# EAGLE library part XCV50_PQ240 (library xilinx-xcv)
xcv50_pq240 edit this description Auto generated by make-symbol-device-package-bsdl.ulp Rev. 26 Source: xcv50_pq240.bsd
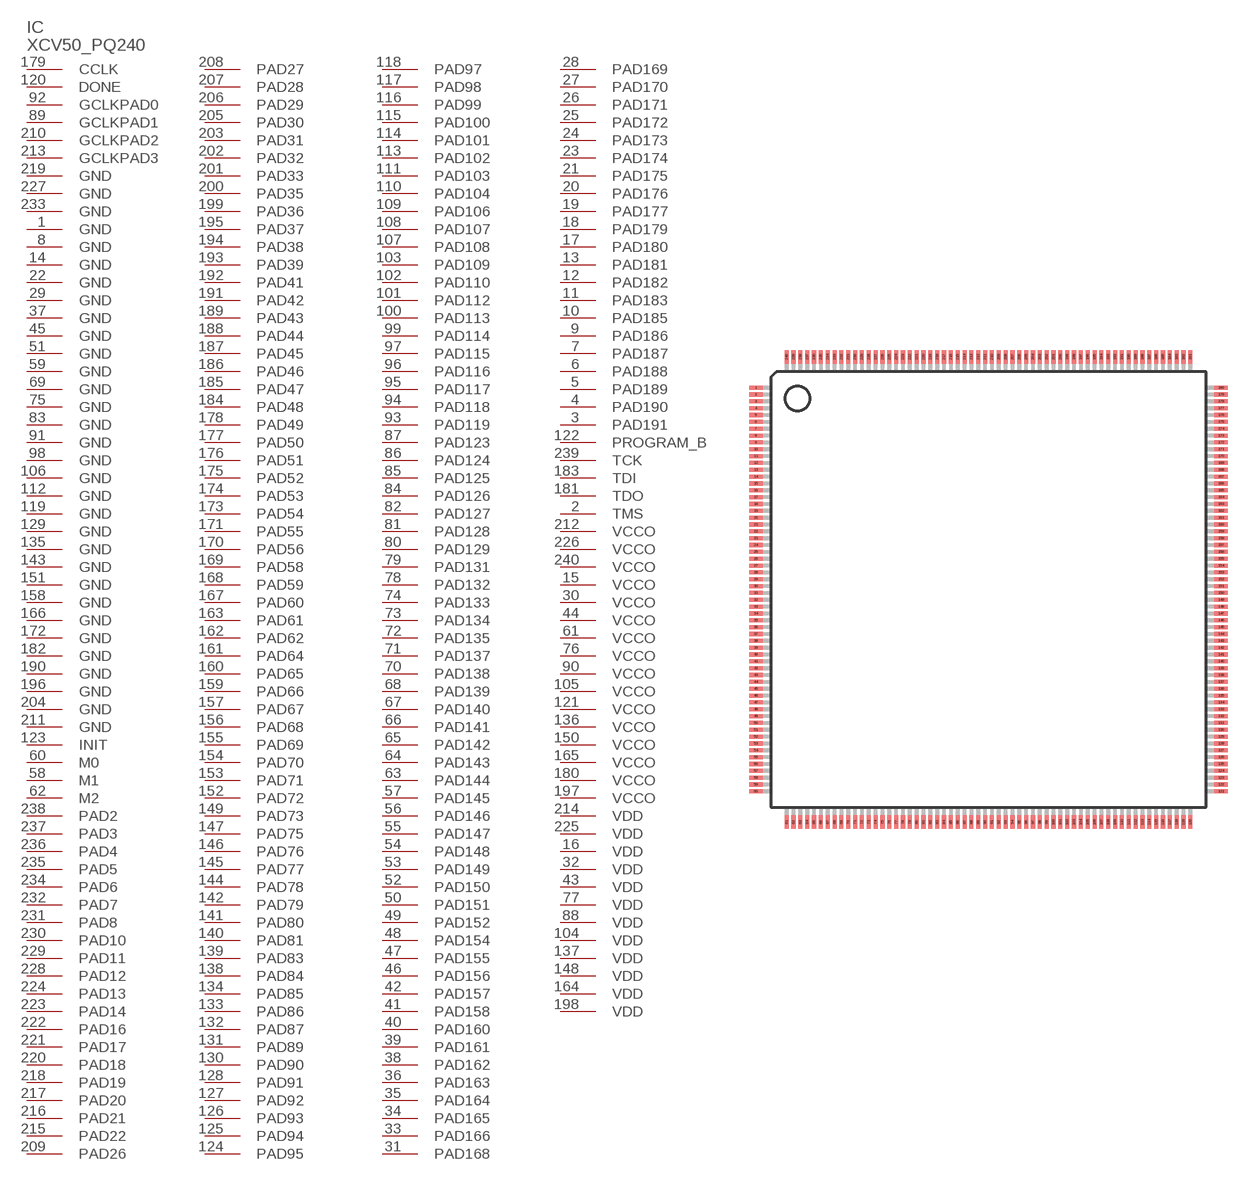
[diagram p68: symbol with the pads of PQ240; footprint PQ240]

Designator prefix IC

## XCV50_PQ240  [PQ240]
1  GND  pwr
2  TMS  in
3  PAD191
4  PAD190
5  PAD189
6  PAD188
7  PAD187
8  GND  pwr
9  PAD186
10  PAD185
11  PAD183
12  PAD182
13  PAD181
14  GND  pwr
15  VCCO  pwr
16  VDD  pwr
17  PAD180
18  PAD179
19  PAD177
20  PAD176
21  PAD175
22  GND  pwr
23  PAD174
24  PAD173
25  PAD172
26  PAD171
27  PAD170
28  PAD169
29  GND  pwr
30  VCCO  pwr
31  PAD168
32  VDD  pwr
33  PAD166
34  PAD165
35  PAD164
36  PAD163
37  GND  pwr
38  PAD162
39  PAD161
40  PAD160
41  PAD158
42  PAD157
43  VDD  pwr
44  VCCO  pwr
45  GND  pwr
46  PAD156
47  PAD155
48  PAD154
49  PAD152
50  PAD151
51  GND  pwr
52  PAD150
53  PAD149
54  PAD148
55  PAD147
56  PAD146
57  PAD145
58  M1  in
59  GND  pwr
60  M0  in
61  VCCO  pwr
62  M2  in
63  PAD144
64  PAD143
65  PAD142
66  PAD141
67  PAD140
68  PAD139
69  GND  pwr
70  PAD138
71  PAD137
72  PAD135
73  PAD134
74  PAD133
75  GND  pwr
76  VCCO  pwr
77  VDD  pwr
78  PAD132
79  PAD131
80  PAD129
81  PAD128
82  PAD127
83  GND  pwr
84  PAD126
85  PAD125
86  PAD124
87  PAD123
88  VDD  pwr
89  GCLKPAD1  in
90  VCCO  pwr
91  GND  pwr
92  GCLKPAD0  in
93  PAD119
94  PAD118
95  PAD117
96  PAD116
97  PAD115
98  GND  pwr
99  PAD114
100  PAD113
101  PAD112
102  PAD110
103  PAD109
104  VDD  pwr
105  VCCO  pwr
106  GND  pwr
107  PAD108
108  PAD107
109  PAD106
110  PAD104
111  PAD103
112  GND  pwr
113  PAD102
114  PAD101
115  PAD100
116  PAD99
117  PAD98
118  PAD97
119  GND  pwr
120  DONE
121  VCCO  pwr
122  PROGRAM_B  in
123  INIT
124  PAD95
125  PAD94
126  PAD93
127  PAD92
128  PAD91
129  GND  pwr
130  PAD90
131  PAD89
132  PAD87
133  PAD86
134  PAD85
135  GND  pwr
136  VCCO  pwr
137  VDD  pwr
138  PAD84
139  PAD83
140  PAD81
141  PAD80
142  PAD79
143  GND  pwr
144  PAD78
145  PAD77
146  PAD76
147  PAD75
148  VDD  pwr
149  PAD73
150  VCCO  pwr
151  GND  pwr
152  PAD72
153  PAD71
154  PAD70
155  PAD69
156  PAD68
157  PAD67
158  GND  pwr
159  PAD66
160  PAD65
161  PAD64
162  PAD62
163  PAD61
164  VDD  pwr
165  VCCO  pwr
166  GND  pwr
167  PAD60
168  PAD59
169  PAD58
170  PAD56
171  PAD55
172  GND  pwr
173  PAD54
174  PAD53
175  PAD52
176  PAD51
177  PAD50
178  PAD49
179  CCLK
180  VCCO  pwr
181  TDO  out
182  GND  pwr
183  TDI  in
184  PAD48
185  PAD47
186  PAD46
187  PAD45
188  PAD44
189  PAD43
190  GND  pwr
191  PAD42
192  PAD41
193  PAD39
194  PAD38
195  PAD37
196  GND  pwr
197  VCCO  pwr
198  VDD  pwr
199  PAD36
200  PAD35
201  PAD33
202  PAD32
203  PAD31
204  GND  pwr
205  PAD30
206  PAD29
207  PAD28
208  PAD27
209  PAD26
210  GCLKPAD2  in
211  GND  pwr
212  VCCO  pwr
213  GCLKPAD3  in
214  VDD  pwr
215  PAD22
216  PAD21
217  PAD20
218  PAD19
219  GND  pwr
220  PAD18
221  PAD17
222  PAD16
223  PAD14
224  PAD13
225  VDD  pwr
226  VCCO  pwr
227  GND  pwr
228  PAD12
229  PAD11
230  PAD10
231  PAD8
232  PAD7
233  GND  pwr
234  PAD6
235  PAD5
236  PAD4
237  PAD3
238  PAD2
239  TCK  in
240  VCCO  pwr

## Footprint PQ240 (pad centres in mm)
PQ240 Auto generated by make-symbol-device-package-bsdl.ulp Rev. 26
smd 1 x 0.3: 1 -17,14.75; 2 -17,14.25; 3 -17,13.75; 4 -17,13.25; 5 -17,12.75; 6 -17,12.25; 7 -17,11.75; 8 -17,11.25; 9 -17,10.75; 10 -17,10.25; 11 -17,9.75; 12 -17,9.25; 13 -17,8.75; 14 -17,8.25; 15 -17,7.75; 16 -17,7.25; 17 -17,6.75; 18 -17,6.25; 19 -17,5.75; 20 -17,5.25; 21 -17,4.75; 22 -17,4.25; 23 -17,3.75; 24 -17,3.25; 25 -17,2.75; 26 -17,2.25; 27 -17,1.75; 28 -17,1.25; 29 -17,0.75; 30 -17,0.25; 31 -17,-0.25; 32 -17,-0.75; 33 -17,-1.25; 34 -17,-1.75; 35 -17,-2.25; 36 -17,-2.75; 37 -17,-3.25; 38 -17,-3.75; 39 -17,-4.25; 40 -17,-4.75; 41 -17,-5.25; 42 -17,-5.75; 43 -17,-6.25; 44 -17,-6.75; 45 -17,-7.25; 46 -17,-7.75; 47 -17,-8.25; 48 -17,-8.75; 49 -17,-9.25; 50 -17,-9.75; 51 -17,-10.25; 52 -17,-10.75; 53 -17,-11.25; 54 -17,-11.75; 55 -17,-12.25; 56 -17,-12.75; 57 -17,-13.25; 58 -17,-13.75; 59 -17,-14.25; 60 -17,-14.75; 121 17,-14.75; 122 17,-14.25; 123 17,-13.75; 124 17,-13.25; 125 17,-12.75; 126 17,-12.25; 127 17,-11.75; 128 17,-11.25; 129 17,-10.75; 130 17,-10.25; 131 17,-9.75; 132 17,-9.25; 133 17,-8.75; 134 17,-8.25; 135 17,-7.75; 136 17,-7.25; 137 17,-6.75; 138 17,-6.25; 139 17,-5.75; 140 17,-5.25; 141 17,-4.75; 142 17,-4.25; 143 17,-3.75; 144 17,-3.25; 145 17,-2.75; 146 17,-2.25; 147 17,-1.75; 148 17,-1.25; 149 17,-0.75; 150 17,-0.25; 151 17,0.25; 152 17,0.75; 153 17,1.25; 154 17,1.75; 155 17,2.25; 156 17,2.75; 157 17,3.25; 158 17,3.75; 159 17,4.25; 160 17,4.75; 161 17,5.25; 162 17,5.75; 163 17,6.25; 164 17,6.75; 165 17,7.25; 166 17,7.75; 167 17,8.25; 168 17,8.75; 169 17,9.25; 170 17,9.75; 171 17,10.25; 172 17,10.75; 173 17,11.25; 174 17,11.75; 175 17,12.25; 176 17,12.75; 177 17,13.25; 178 17,13.75; 179 17,14.25; 180 17,14.75
smd 0.3 x 1: 61 -14.75,-17; 62 -14.25,-17; 63 -13.75,-17; 64 -13.25,-17; 65 -12.75,-17; 66 -12.25,-17; 67 -11.75,-17; 68 -11.25,-17; 69 -10.75,-17; 70 -10.25,-17; 71 -9.75,-17; 72 -9.25,-17; 73 -8.75,-17; 74 -8.25,-17; 75 -7.75,-17; 76 -7.25,-17; 77 -6.75,-17; 78 -6.25,-17; 79 -5.75,-17; 80 -5.25,-17; 81 -4.75,-17; 82 -4.25,-17; 83 -3.75,-17; 84 -3.25,-17; 85 -2.75,-17; 86 -2.25,-17; 87 -1.75,-17; 88 -1.25,-17; 89 -0.75,-17; 90 -0.25,-17; 91 0.25,-17; 92 0.75,-17; 93 1.25,-17; 94 1.75,-17; 95 2.25,-17; 96 2.75,-17; 97 3.25,-17; 98 3.75,-17; 99 4.25,-17; 100 4.75,-17; 101 5.25,-17; 102 5.75,-17; 103 6.25,-17; 104 6.75,-17; 105 7.25,-17; 106 7.75,-17; 107 8.25,-17; 108 8.75,-17; 109 9.25,-17; 110 9.75,-17; 111 10.25,-17; 112 10.75,-17; 113 11.25,-17; 114 11.75,-17; 115 12.25,-17; 116 12.75,-17; 117 13.25,-17; 118 13.75,-17; 119 14.25,-17; 120 14.75,-17; 181 14.75,17; 182 14.25,17; 183 13.75,17; 184 13.25,17; 185 12.75,17; 186 12.25,17; 187 11.75,17; 188 11.25,17; 189 10.75,17; 190 10.25,17; 191 9.75,17; 192 9.25,17; 193 8.75,17; 194 8.25,17; 195 7.75,17; 196 7.25,17; 197 6.75,17; 198 6.25,17; 199 5.75,17; 200 5.25,17; 201 4.75,17; 202 4.25,17; 203 3.75,17; 204 3.25,17; 205 2.75,17; 206 2.25,17; 207 1.75,17; 208 1.25,17; 209 0.75,17; 210 0.25,17; 211 -0.25,17; 212 -0.75,17; 213 -1.25,17; 214 -1.75,17; 215 -2.25,17; 216 -2.75,17; 217 -3.25,17; 218 -3.75,17; 219 -4.25,17; 220 -4.75,17; 221 -5.25,17; 222 -5.75,17; 223 -6.25,17; 224 -6.75,17; 225 -7.25,17; 226 -7.75,17; 227 -8.25,17; 228 -8.75,17; 229 -9.25,17; 230 -9.75,17; 231 -10.25,17; 232 -10.75,17; 233 -11.25,17; 234 -11.75,17; 235 -12.25,17; 236 -12.75,17; 237 -13.25,17; 238 -13.75,17; 239 -14.25,17; 240 -14.75,17